# Altium schematic symbol library Auxillary_Supply_UCC28740.SchLib: 11 symbols
Pins are listed as number, name and electrical type; pins without a type are passive.

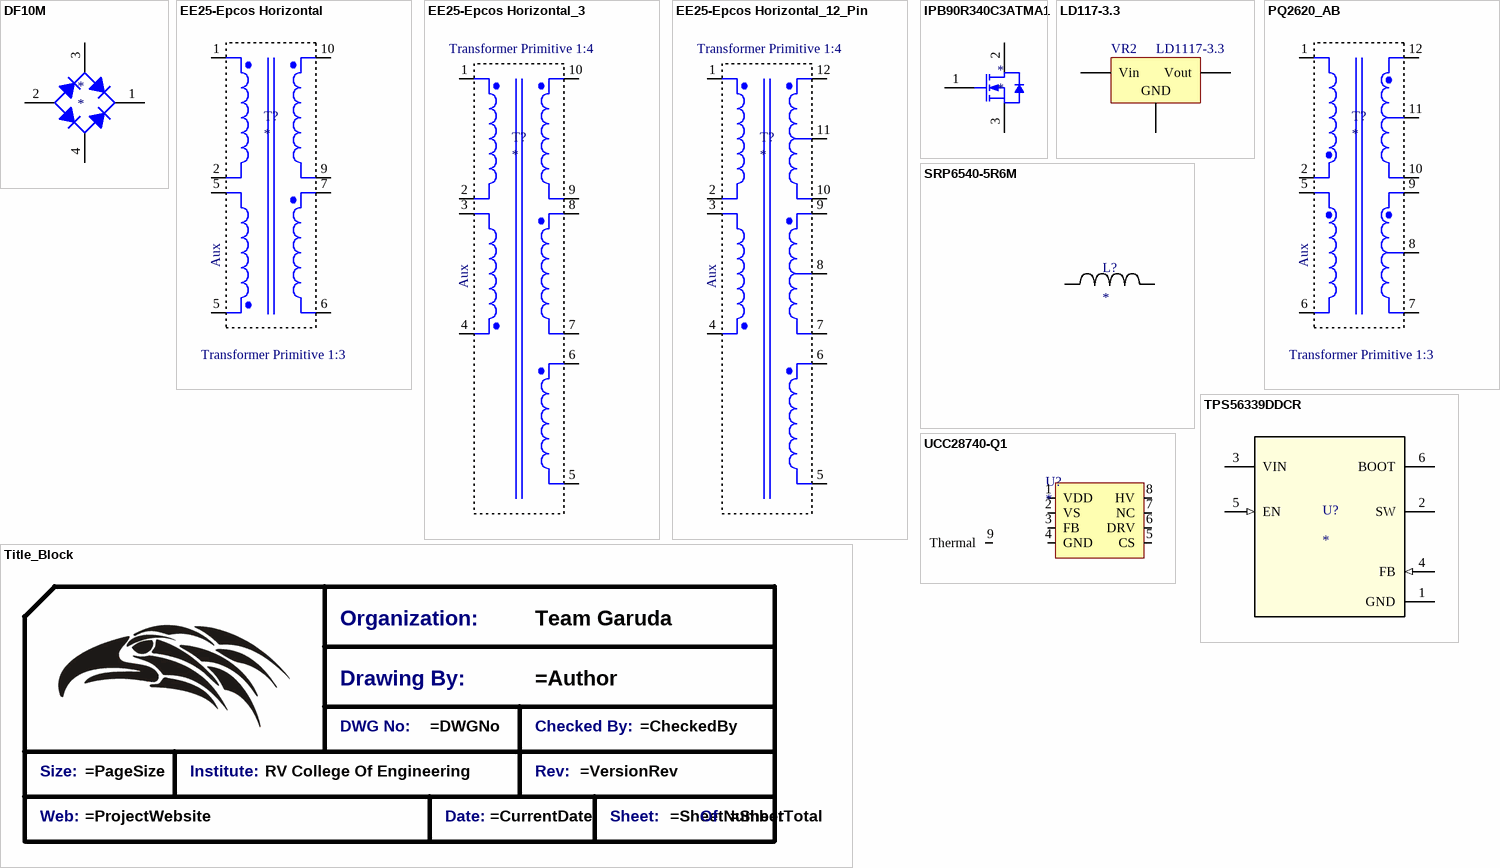
[diagram p0: symbols DF10M to UCC28740-Q1]

## DF10M
designator *
footprint DF10M
pins: 1 K, 2 A, 3 C, 4 C

## EE25-Epcos Horizontal
designator T?
footprint EE25-EpcosH
pins: 1, 2 1, 3 hidden, 5 4, 5, 6, 7, 8 hidden, 9, 10
text: Aux; Transformer Primitive 1:3

## EE25-Epcos Horizontal_3
designator T?
footprint EE25-EpcosH
pins: 1, 2 1, 3 hidden, 3, 4, 5, 6, 7, 8 hidden, 8, 9, 10
text: Transformer Primitive 1:4; Aux

## EE25-Epcos Horizontal_12_Pin
designator T?
footprint PQ26_20
pins: 1, 2 1, 3 hidden, 3, 4, 5, 6, 7, 8 hidden, 8, 9, 10, 11, 12
text: Transformer Primitive 1:4; Aux

## IPB90R340C3ATMA1
designator *
pins: 1 GATE, 2 DRAIN, 3 SOURCE

## LD117-3.3
designator VR2, comment LD1117-3.3
Voltage Regulator; Published: 24-Mar-1999; LatestRevisionDate: 29-May-2009; LatestRevisionNote: IPC-7351 Footprint Added.; PackageReference: D2PAK; Publisher: Altium Limited; PackageDescription: 3-Pin Transistor Outline Package 2.54 mm Pitch, 15.1 mm Lead Span
footprint SOT230P700X180-4N (SOT223, 4-Leads, Body 6.50x7.00mm (avg), Pitch 2.30mm, IPC Medium Density)
pins: 1 GND, 2 Vout, 3 Vin

## PQ2620_AB
designator T?
footprint PQ26_20
pins: 1, 2 1, 3 hidden, 5, 6, 7, 8 hidden, 8, 9, 10, 11, 12
text: Aux; Transformer Primitive 1:3

## SRP6540-5R6M
designator L?
Imported; Manufacturer_Part_Number: SRP6540-5R6M; Vendor: Bourns; PACKAGE_DESIGNATOR: SRP6540; Manufacturer: Bourns; Manufacturer_Name: Bourns; RefDes: RefDes; TYPE: TYPE; Value: Value
footprint SRP6540
pins: 1, 2

## Title_Block
designator *  (value not drawn)  (graphical)
Standard Title Block
text: Organization:; Team Garuda; Drawing By:; DWG No:; Checked By:; Size:; Institute:; RV College Of Engineering; Rev:; Web:; Date:; Sheet:; Of

## TPS56339DDCR
designator U?
Imported; Manufacturer: Texas Instruments; PartNumber: TPS56339DDCR; RefDes: RefDes; TYPE: TYPE; Value: Value; Manufacturer_Part_Number: TPS56339DDCR; Manufacturer_Name: Texas Instruments
footprint DDC0006A_N
footprint SOT95P278X110-6N (SOT23, 6-Leads, Body 2.90x2.78mm, Pitch 0.95mm, IPC Medium Density)
pins: 1 GND (power), 2 SW (power), 3 VIN (power), 4 FB (in), 5 EN (in), 6 BOOT (power)

## UCC28740-Q1
designator U?
footprint SOIC127P570X175_HS-9N (SOIC, 8-Leads, Body 4.91x3.90mm, Pitch 1.27mm, Thermal Pad 3.00x3.00mm, IPC Medium Density)
footprint SOIC127P570X175_HS-9N (SOIC, 8-Leads, Body 4.91x3.90mm, Pitch 1.27mm, Thermal Pad 3.00x3.00mm, IPC Medium Density)
pins: 1 VDD (power), 2 VS, 3 FB, 4 GND (power), 5 CS, 6 DRV, 7 NC, 8 HV, 9 Thermal
1 alternate drawing of the same symbol